# EAGLE library part 62674-201121ALF (library FCI_By_element14_Batch_1)
CONN FPC/FFC 20POS .5MM VERT SMD
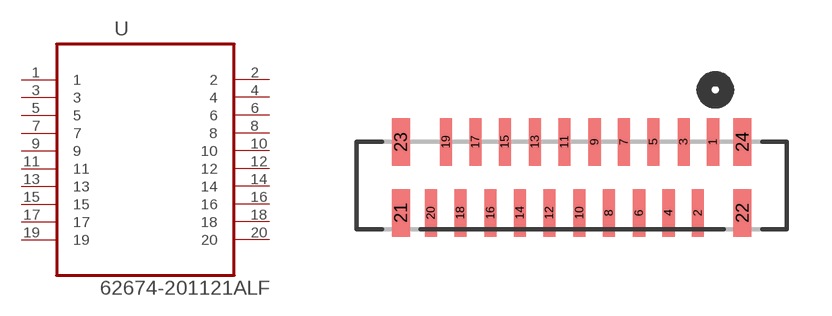
[diagram p7: symbol with the pads of FCI_62674-201121ALF; footprint FCI_62674-201121ALF]

Designator prefix U

## 62674-201121ALF (MPN: 62674-201121ALF; OC_FARNELL: 1830629; OC_NEWARK: 03M2161; PACKAGE: CONN-20POS; SUPPLIER: FCI)  [FCI_62674-201121ALF]
1  1  pas
2  2  pas
3  3  pas
4  4  pas
5  5  pas
6  6  pas
7  7  pas
8  8  pas
9  9  pas
10  10  pas
11  11  pas
12  12  pas
13  13  pas
14  14  pas
15  15  pas
16  16  pas
17  17  pas
18  18  pas
19  19  pas
20  20  pas

## Footprint FCI_62674-201121ALF (pad centres in mm)
smd 0.406 x 1.6: 1 0,4.775; 2 -0.508,2.388; 3 -0.991,4.775; 4 -1.499,2.388; 5 -2.007,4.775; 6 -2.489,2.388; 7 -2.997,4.775; 8 -3.505,2.388; 9 -3.988,4.775; 10 -4.496,2.388; 11 -5.004,4.775; 12 -5.512,2.388; 13 -5.994,4.775; 14 -6.502,2.388; 15 -7.01,4.775; 16 -7.493,2.388; 17 -8.001,4.775; 18 -8.509,2.388; 19 -8.992,4.775; 20 -9.5,2.388
smd 0.61 x 1.6: 21 -10.516,2.388; 22 0.991,2.388; 23 -10.516,4.775; 24 0.991,4.775